# Altium schematic symbol library HY2213.SchLib: 1 symbol
Pins are listed as number, name and electrical type; pins without a type are passive.

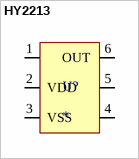
[diagram p0: symbol HY2213]

## HY2213
designator U?
footprint HY2213
pins: 1 47, 2 VDD, 3 VSS, 4, 5, 6 OUT